# EAGLE library part 6510 (library commodore)
The famous 6510 CPU. There are some differences between the 6510, 6510-1 and the 6510-2. The -1 and -2 versions have a slightly changed pinout and 2 IO-bits more than the 6510!
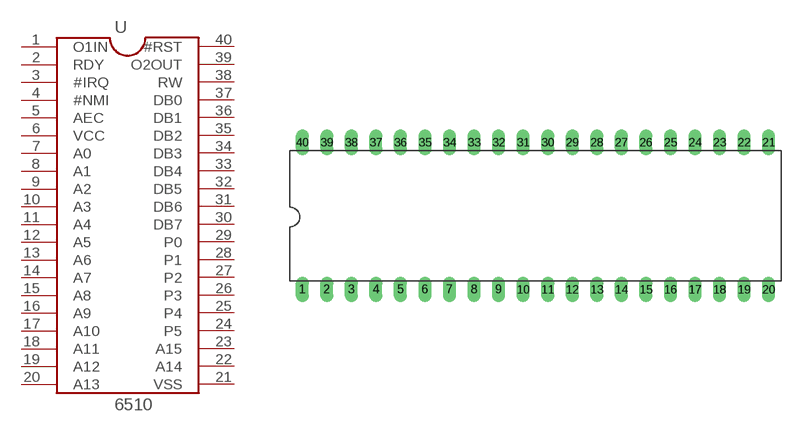
[diagram p12: symbol with the pads of DIL40; footprint DIL40]

Designator prefix -

## 6510  [DIL40]
1  O1IN
2  RDY
3  #IRQ
4  #NMI
5  AEC
6  VCC
7  A0
8  A1
9  A2
10  A3
11  A4
12  A5
13  A6
14  A7
15  A8
16  A9
17  A10
18  A11
19  A12
20  A13
21  VSS
22  A14
23  A15
24  P5
25  P4
26  P3
27  P2
28  P1
29  P0
30  DB7
31  DB6
32  DB5
33  DB4
34  DB3
35  DB2
36  DB1
37  DB0
38  RW
39  O2OUT
40  #RST

## Footprint DIL40 (pad centres in mm)
Dual In Line Package
drill 0.813 long: 1 -24.13,-7.62; 2 -21.59,-7.62; 3 -19.05,-7.62; 4 -16.51,-7.62; 5 -13.97,-7.62; 6 -11.43,-7.62; 7 -8.89,-7.62; 8 -6.35,-7.62; 9 -3.81,-7.62; 10 -1.27,-7.62; 11 1.27,-7.62; 12 3.81,-7.62; 13 6.35,-7.62; 14 8.89,-7.62; 15 11.43,-7.62; 16 13.97,-7.62; 17 16.51,-7.62; 18 19.05,-7.62; 19 21.59,-7.62; 20 24.13,-7.62; 21 24.13,7.62; 22 21.59,7.62; 23 19.05,7.62; 24 16.51,7.62; 25 13.97,7.62; 26 11.43,7.62; 27 8.89,7.62; 28 6.35,7.62; 29 3.81,7.62; 30 1.27,7.62; 31 -1.27,7.62; 32 -3.81,7.62; 33 -6.35,7.62; 34 -8.89,7.62; 35 -11.43,7.62; 36 -13.97,7.62; 37 -16.51,7.62; 38 -19.05,7.62; 39 -21.59,7.62; 40 -24.13,7.62